# Altium schematic symbol library IOT_SCh.SCHLib: 1 symbol
Pins are listed as number, name and electrical type; pins without a type are passive.

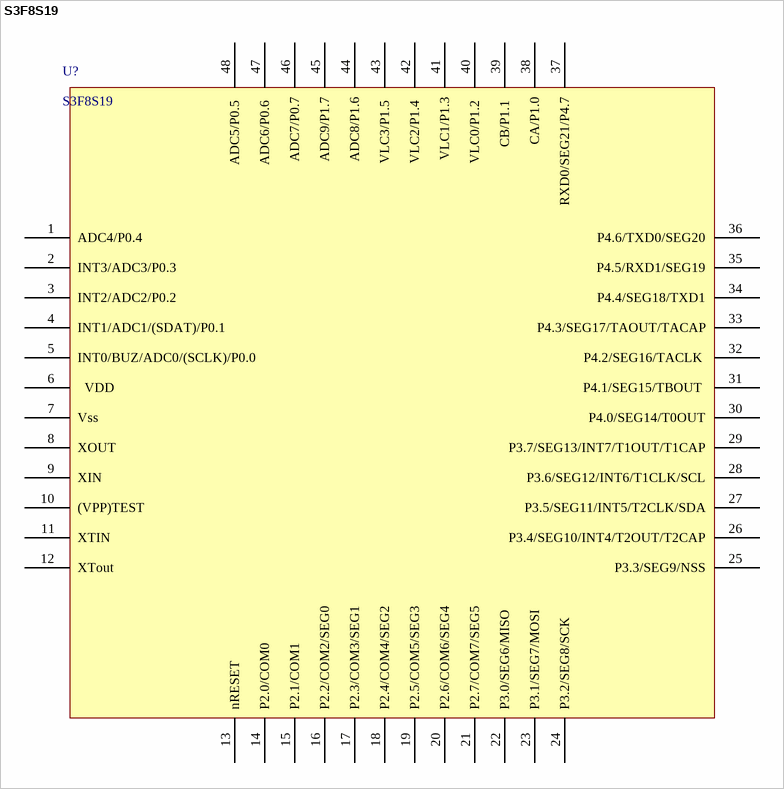
[diagram p0: symbol S3F8S19]

## S3F8S19
designator U?
footprint QFP75P1335X1335X230-48N (QFP, 48-Leads, Body 10.00x10.00mm, Pitch 0.75mm, IPC Medium Density)
pins: 1 ADC4/P0.4, 2 INT3/ADC3/P0.3 , 3 INT2/ADC2/P0.2, 4 INT1/ADC1/(SDAT)/P0.1, 5 INT0/BUZ/ADC0/(SCLK)/P0.0 , 6   VDD , 7 Vss, 8 XOUT, 9 XIN , 10 (VPP)TEST , 11 XTIN , 12 XTout, 13 nRESET , 14 P2.0/COM0 , 15 P2.1/COM1 , 16 P2.2/COM2/SEG0 , 17 P2.3/COM3/SEG1, 18 P2.4/COM4/SEG2, 19 P2.5/COM5/SEG3, 20 P2.6/COM6/SEG4, 21 P2.7/COM7/SEG5 , 22 P3.0/SEG6/MISO, 23 P3.1/SEG7/MOSI , 24 P3.2/SEG8/SCK, 25 P3.3/SEG9/NSS, 26 P3.4/SEG10/INT4/T2OUT/T2CAP, 27 P3.5/SEG11/INT5/T2CLK/SDA, 28 P3.6/SEG12/INT6/T1CLK/SCL, 29 P3.7/SEG13/INT7/T1OUT/T1CAP, 30 P4.0/SEG14/T0OUT, 31 P4.1/SEG15/TBOUT , 32 P4.2/SEG16/TACLK , 33 P4.3/SEG17/TAOUT/TACAP, 34 P4.4/SEG18/TXD1, 35 P4.5/RXD1/SEG19, 36 P4.6/TXD0/SEG20, 37 RXD0/SEG21/P4.7, 38 CA/P1.0, 39 CB/P1.1 , 40 VLC0/P1.2 , 41 VLC1/P1.3, 42 VLC2/P1.4 , 43 VLC3/P1.5 , 44 ADC8/P1.6, 45 ADC9/P1.7, 46 ADC7/P0.7, 47 ADC6/P0.6 , 48 ADC5/P0.5 